# Altium integrated library MP4462DN.IntLib: 1 symbol
Pins are listed as number, name and electrical type; pins without a type are passive.

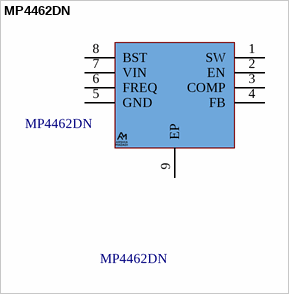
[diagram p0: symbol MP4462DN]

## MP4462DN
designator MP4462DN
Power Supply; Manufacturer_Name: Monolithic Power Systems (MPS); Datasheet Link: http://uk.rs-online.com/web/p/products/9175759; Height: 1.7mm; Manufacturer_Part_Number: MP4462DN; Mouser Part Number: MP4462DN; Mouser Price/Stock: https://www.mouser.com/Search/Refine.aspx?Keyword=946-MP4560DNLF
footprint MP4462DN
pins: 1 SW, 2 EN, 3 COMP, 4 FB, 5 GND, 6 FREQ, 7 VIN, 8 BST, 9 EP